# EAGLE library part PCA9555 (library JLB6_Processor)
16-bit I2C and SMBus I/O port with interrupt Source: PCA9555_5.pdf
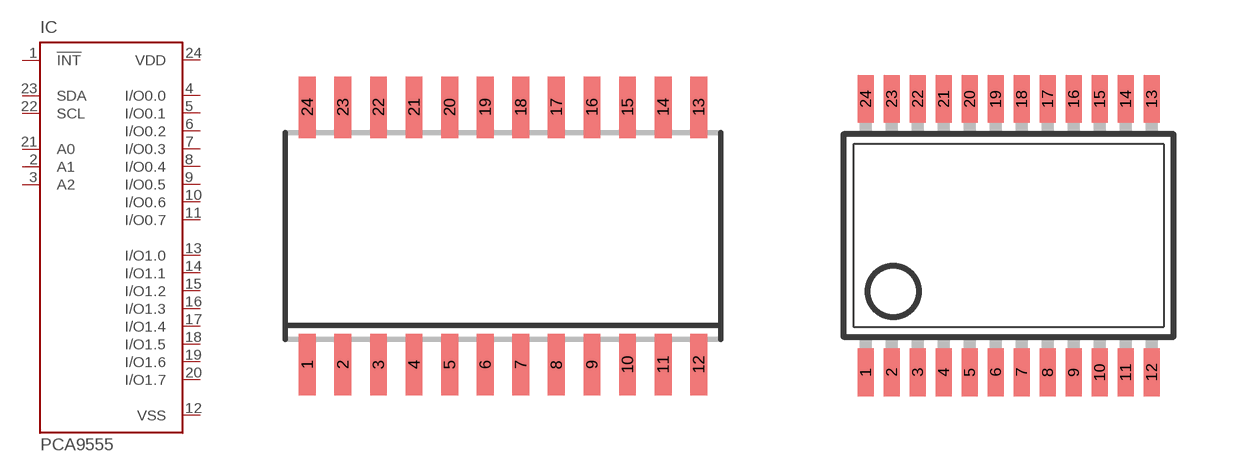
[diagram p11: symbol with the pads of SO24; footprints SO24, SSOP24]

Designator prefix IC

## PCA9555D  [SO24]
1  !INT  out
2  A1  in
3  A2  in
4  I/O0.0
5  I/O0.1
6  I/O0.2
7  I/O0.3
8  I/O0.4
9  I/O0.5
10  I/O0.6
11  I/O0.7
12  VSS  pwr
13  I/O1.0
14  I/O1.1
15  I/O1.2
16  I/O1.3
17  I/O1.4
18  I/O1.5
19  I/O1.6
20  I/O1.7
21  A0  in
22  SCL  in
23  SDA
24  VDD  pwr

## PCA9555DB  [SSOP24]
Pads as for SO24

## PCA9555BS  [HVQFN24]
1  I/O0.0
2  I/O0.1
3  I/O0.2
4  I/O0.3
5  I/O0.4
6  I/O0.5
7  I/O0.6
8  I/O0.7
9  VSS  pwr
10  I/O1.0
11  I/O1.1
12  I/O1.2
13  I/O1.3
14  I/O1.4
15  I/O1.5
16  I/O1.6
17  I/O1.7
18  A0  in
19  SCL  in
20  SDA
21  VDD  pwr
22  !INT  out
23  A1  in
24  A2  in

## PCA9555PW  [TSSOP24]
Pads as for SO24

## Footprint SO24 (pad centres in mm)
Small Outline Package 7.6 x 15.74 mm
smd 0.6 x 2.2: 1 -6.985,-4.6; 2 -5.715,-4.6; 3 -4.445,-4.6; 4 -3.175,-4.6; 5 -1.905,-4.6; 6 -0.635,-4.6; 7 0.635,-4.6; 8 1.905,-4.6; 9 3.175,-4.6; 10 4.445,-4.6; 11 5.715,-4.6; 12 6.985,-4.6; 13 6.985,4.6; 14 5.715,4.6; 15 4.445,4.6; 16 3.175,4.6; 17 1.905,4.6; 18 0.635,4.6; 19 -0.635,4.6; 20 -1.905,4.6; 21 -3.175,4.6; 22 -4.445,4.6; 23 -5.715,4.6; 24 -6.985,4.6

## Footprint SSOP24 (pad centres in mm)
Small Shrink Outline Package SOT340-1 / JEDEC MO-150AG
smd 0.4 x 1.2: 1 -3.575,-3.42; 2 -2.925,-3.42; 3 -2.275,-3.42; 4 -1.625,-3.42; 5 -0.975,-3.42; 6 -0.325,-3.42; 7 0.325,-3.42; 8 0.975,-3.42; 9 1.625,-3.42; 10 2.275,-3.42; 11 2.925,-3.42; 12 3.575,-3.42; 13 3.575,3.42; 14 2.925,3.42; 15 2.275,3.42; 16 1.625,3.42; 17 0.975,3.42; 18 0.325,3.42; 19 -0.325,3.42; 20 -0.975,3.42; 21 -1.625,3.42; 22 -2.275,3.42; 23 -2.925,3.42; 24 -3.575,3.42

## Footprint HVQFN24 (pad centres in mm)
plastic thermal enhanced very thin quad flat package SOT616-1 no leads; 24 terminals; body 4 x 4 x 0.85 mm Source: PCA9555_5.pdf
smd 0.5 x 0.3: 1 -1.8,1.25; 2 -1.8,0.75; 3 -1.8,0.25; 4 -1.8,-0.25; 5 -1.8,-0.75; 6 -1.8,-1.25; 13 1.8,-1.25; 14 1.8,-0.75; 15 1.8,-0.25; 16 1.8,0.25; 17 1.8,0.75; 18 1.8,1.25
smd 0.3 x 0.5: 7 -1.25,-1.8; 8 -0.75,-1.8; 9 -0.25,-1.8; 10 0.25,-1.8; 11 0.75,-1.8; 12 1.25,-1.8; 19 1.25,1.8; 20 0.75,1.8; 21 0.25,1.8; 22 -0.25,1.8; 23 -0.75,1.8; 24 -1.25,1.8
smd 2.25 x 2.25: TH 0,0

## Footprint TSSOP24 (pad centres in mm)
Thin Shrink Small Outline Plastic 24 Source: MAX3223-MAX3243.pdf
smd 0.305 x 0.991: 1 -3.575,-2.918; 2 -2.925,-2.918; 3 -2.275,-2.918; 4 -1.625,-2.918; 5 -0.975,-2.918; 6 -0.325,-2.918; 7 0.325,-2.918; 8 0.975,-2.918; 9 1.625,-2.918; 10 2.275,-2.918; 11 2.925,-2.918; 12 3.575,-2.918; 13 3.575,2.918; 14 2.925,2.918; 15 2.275,2.918; 16 1.625,2.918; 17 0.975,2.918; 18 0.325,2.918; 19 -0.325,2.918; 20 -0.975,2.918; 21 -1.625,2.918; 22 -2.275,2.918; 23 -2.925,2.918; 24 -3.575,2.918